# Altium footprint library PCB - RELAY - OMRON G6DN.PCBLIB: 1 footprints
Each footprint in its own frame and in the unit in brackets; x right, y up, seen from the top. Pads: shape width x height; smd on the part's side, far side on the other; paste and mask are expansions set on the pad; w line width, h text height; cw(c..) or ccw(c..) is an arc to the next point about the centre after c.
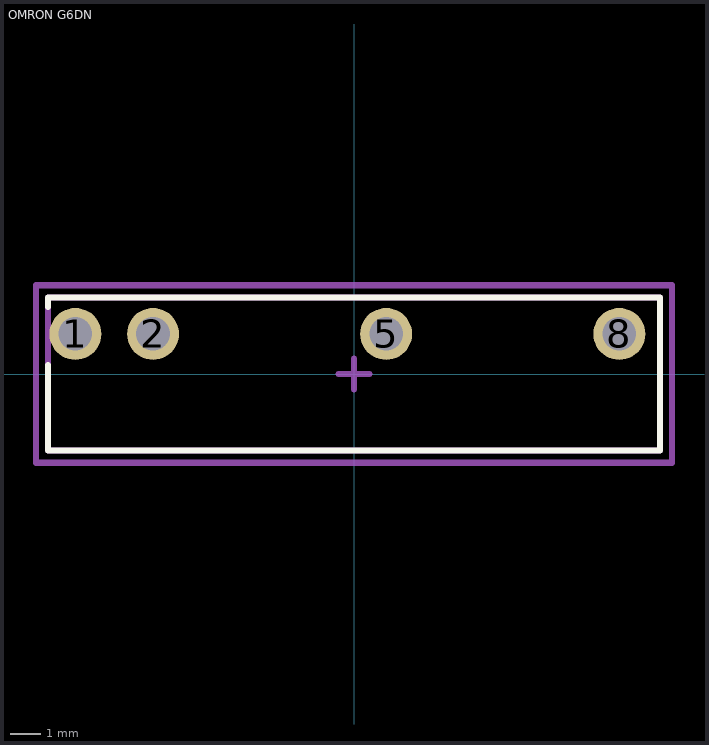
[diagram p0: the footprint, top view; thin cyan lines are the x and y axes]

## OMRON G6DN [mm] "1 Form A 5 A, Slim power relay"
height 12.8
pads (4):
  round 1.7 hole 1.1: 1(-9.109,1.31) 2(-6.569,1.31) 5(1.051,1.31) 8(8.671,1.31)
Top Overlay:
  lines w0.2: -10,0.3 -10,-2.5 10,-2.5 10,2.5 -10,2.5 -10,2.2
Top Assembly:
  lines w0.2: -10,-2.5 -10,2.5 10,2.5 10,-2.5 -10,-2.5
Top Courtyard (Mech15):
  lines w0.2: -0.5,0 0.5,0 ; 0,-0.5 0,0.5 ; -10.4,-2.9 10.4,-2.9 10.4,2.9 -10.4,2.9 -10.4,-2.9
3D body "OMRON G6DN.step": height 12.5, standoff -3.3, extent -10,-2.54 10,2.54